# Altium schematic symbol library FTDI FT-X Series.SchLib: 28 symbols (part 2 of 2)
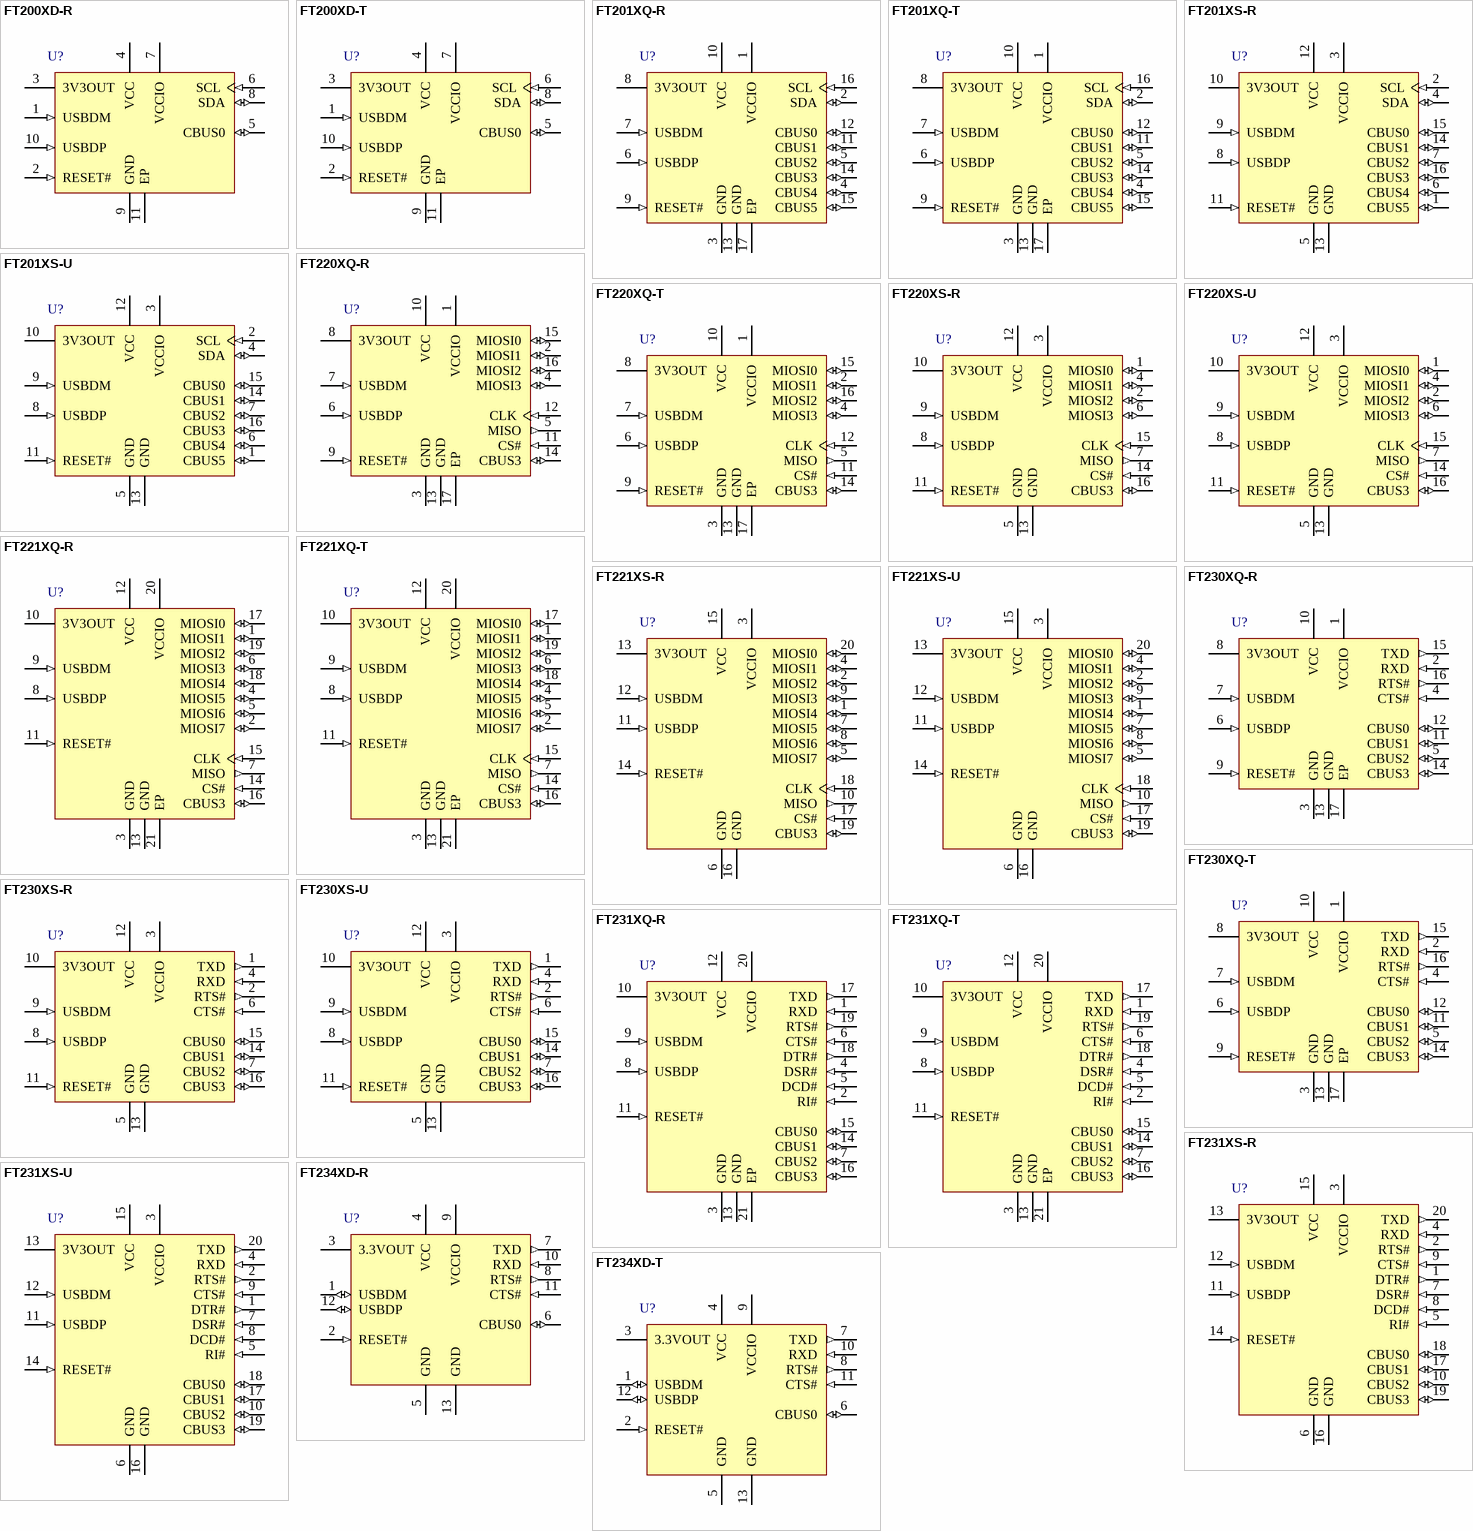
[diagram p2: symbols FT200XD-R to FT234XD-T]

## FT234XD-T
designator U?
FT234XD USB to BASIC UART IC, -40 to +85 degC, 12-Pin DFN, Pb-Free, Tray; Manufacturer: FTDI; PartNumber: FT234XD-T; DatasheetVersion: ver 1.1, Feb-2013; PackageVersion: Feb-13; PackageReference: DFN-12; PackageDescription: 12-Pin Dual Flat No-Lead, 3 x 3 mm Body, 0.45 mm Pitch, Exposed Pad; ComponentLink1Description: Manufacturer URL; ComponentLink1URL: http://www.ftdichip.com/; ComponentLink2Description: Datasheet; ComponentLink2URL: http://www.ftdichip.com/Support/Documents/DataSheets/ICs/DS_FT234XD.pdf
footprint DFN-12_V (SON, 12-Leads, Body 3x3mm, Pitch 0.45mm, Thermal Pad 2.5x1.6mm)
pins: 1 USBDM (io) "USB Data Signal Minus.", 2 RESET# (in) "Reset input (active low).", 3 3.3VOUT (power) "3.3V output at 50mA. May be used to power VCCIO. When VCC is 3.3V; pin 3 is an input pin and should be connected to pin 4.", 4 VCC (power) "5 V (or 3.3V) supply to IC", 5 GND (power) "0V Ground input.", 6 CBUS0 (io) "Configurable CBUS I/O Pin. Function of this pin is configured in the device MTP memory. The default configuration is TXDEN.", 7 TXD (out) "Transmit Asynchronous Data Output.", 8 RTS# (out) "Request to Send Control Output / Handshake Signal.", 9 VCCIO (power) "1.8V - 3.3V supply for the IO cells", 10 RXD (in) "Receiving Asynchronous Data Input.", 11 CTS# (in) "Clear To Send Control Input / Handshake Signal.", 12 USBDP (io) "USB Data Signal Plus.", 13 GND (power) "0V Ground input."

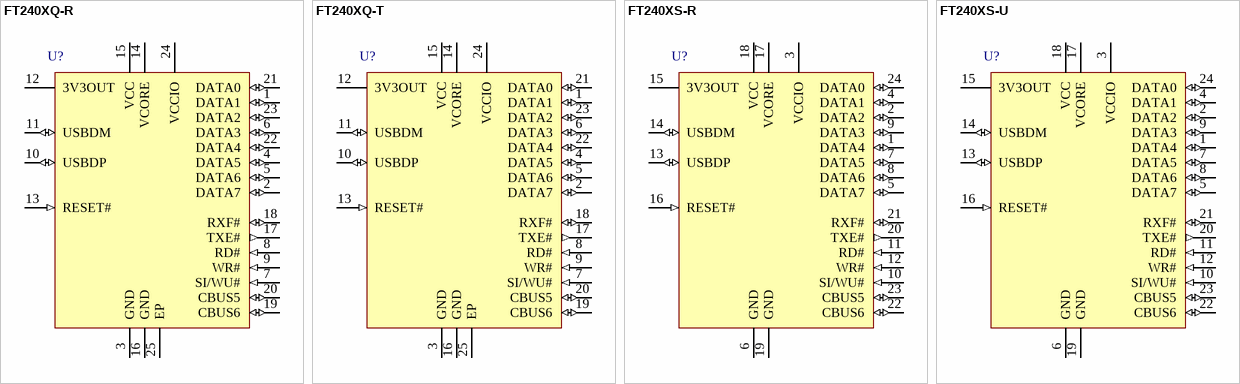
[diagram p1: symbols FT240XQ-R to FT240XS-U]

## FT240XQ-R
designator U?
USB to Parallel FIFO Interface Chip, UHCI/OHCI/EHCI Compatible, USB 2.0 Compatible, -40 to +85 degC, 24-Pin QFN, Pb-Free, Tape and Reel; Manufacturer: FTDI; PartNumber: FT240XQ-R; DatasheetVersion: ver 1.3, Feb-2013; PackageVersion: Feb-13; PackageReference: QFN-24; PackageDescription: 24-Pin Quad Flat No-Lead, 4 x 4 mm Body, 0.5 mm Pitch; Code_JEDEC: MO-220WGGD-6; ComponentLink1Description: Manufacturer URL; ComponentLink1URL: http://www.ftdichip.com/; ComponentLink2Description: Datasheet; ComponentLink2URL: http://www.ftdichip.com/Support/Documents/DataSheets/ICs/DS_FT240X.pdf; ComponentLink3Description: FT240X Product Page; ComponentLink3URL: www.ftdichip.com/Products/ICs/FT240X.html
footprint QFN-24_N (QFN, 24-Leads, Body 4x4mm, Pitch 0.5mm, Thermal Pad 2.7x2.7mm, IPC Medium Density)
footprint QFN-24_L (QFN, 24-Leads, Body 4x4mm, Pitch 0.5mm, Thermal Pad 2.7x2.7mm, IPC High Density)
footprint QFN-24_M (QFN, 24-Leads, Body 4x4mm, Pitch 0.5mm, Thermal Pad 2.7x2.7mm, IPC Low Density)
pins: 1 DATA1 (io) "FIFO Data Bus Bit 1.", 2 DATA7 (io) "FIFO Data Bus Bit 7.", 3 GND (power) "Device ground supply pins.", 4 DATA5 (io) "FIFO Data Bus Bit 5.", 5 DATA6 (io) "FIFO Data Bus Bit 6.", 6 DATA3 (io) "FIFO Data Bus Bit 3.", 7 SI/WU# (in) "Active low input. May be used to flush the IC buffer back to the PC (Send Immediate) or if the PC is in suspend mode it can be used as a Wake Up signal.", 8 RD# (in) "Enables the current FIFO data byte on D0...D7 when low. Fetched the next FIFO data byte (if available) from the receive FIFO buffer when RD# goes from high to low.", 9 WR# (in) "Writes the data byte on the D0...D7 pins into the transmit FIFO buffer when WR goes from high to low.", 10 USBDP (io) "USB Data Signal Plus, incorporating 1.5k ohm pull up resistor to 3.3V.", 11 USBDM (io) "USB Data Signal Minus.", 12 3V3OUT (power) "3V3 output at 50mA. May be used to power VCCIO. When VCC is 3V3; pin 12is an input pinand should beconnected to pin 15.", 13 RESET# (in) "Active low reset pin. This can be used by an external device to reset the FT240X. If not required can be left unconnected,or pulled up to VCC.", 14 VCORE (power) "+1V8 Output. May be left unterminated.", 15 VCC (power) "+5V (or 3V3) supply to the device core.", 16 GND (power) "Device ground supply pins.", 17 TXE# (out) "When high, do not write data into the FIFO. When low, data can be written into the FIFO by strobing WR high, then low. During reset this signal pin is tri-state.", 18 RXF# (io) "When high, do not read data from the FIFO. When low, there is data available in the FIFO which can be read by strobing RD# low, then high again. During reset this signal pin is tri-state.", 19 CBUS6 (io) "Configurable CBUS I/O Pin. Function of this pin is configured in the device MTP memory.", 20 CBUS5 (io) "Configurable CBUS I/O Pin. Function of this pin is configured in the device MTP memory.", 21 DATA0 (io) "FIFO Data Bus Bit 0.", 22 DATA4 (io) "FIFO Data Bus Bit 4.", 23 DATA2 (io) "FIFO Data Bus Bit 2.", 24 VCCIO (power) "1V8 -3V3 supply for the IO cells.", 25 EP (power) "Exposed Pad. Connect to GND."

## FT240XQ-T
designator U?
USB to Parallel FIFO Interface Chip, UHCI/OHCI/EHCI Compatible, USB 2.0 Compatible, -40 to +85 degC, 24-Pin QFN, Pb-Free, Tray; Manufacturer: FTDI; PartNumber: FT240XQ-T; DatasheetVersion: ver 1.3, Feb-2013; PackageVersion: Feb-13; PackageReference: QFN-24; PackageDescription: 24-Pin Quad Flat No-Lead, 4 x 4 mm Body, 0.5 mm Pitch; Code_JEDEC: MO-220WGGD-6; ComponentLink1Description: Manufacturer URL; ComponentLink1URL: http://www.ftdichip.com/; ComponentLink2Description: Datasheet; ComponentLink2URL: http://www.ftdichip.com/Support/Documents/DataSheets/ICs/DS_FT240X.pdf; ComponentLink3Description: FT240X Product Page; ComponentLink3URL: www.ftdichip.com/Products/ICs/FT240X.html
footprint QFN-24_N (QFN, 24-Leads, Body 4x4mm, Pitch 0.5mm, Thermal Pad 2.7x2.7mm, IPC Medium Density)
footprint QFN-24_L (QFN, 24-Leads, Body 4x4mm, Pitch 0.5mm, Thermal Pad 2.7x2.7mm, IPC High Density)
footprint QFN-24_M (QFN, 24-Leads, Body 4x4mm, Pitch 0.5mm, Thermal Pad 2.7x2.7mm, IPC Low Density)
pins: 1 DATA1 (io) "FIFO Data Bus Bit 1.", 2 DATA7 (io) "FIFO Data Bus Bit 7.", 3 GND (power) "Device ground supply pins.", 4 DATA5 (io) "FIFO Data Bus Bit 5.", 5 DATA6 (io) "FIFO Data Bus Bit 6.", 6 DATA3 (io) "FIFO Data Bus Bit 3.", 7 SI/WU# (in) "Active low input. May be used to flush the IC buffer back to the PC (Send Immediate) or if the PC is in suspend mode it can be used as a Wake Up signal.", 8 RD# (in) "Enables the current FIFO data byte on D0...D7 when low. Fetched the next FIFO data byte (if available) from the receive FIFO buffer when RD# goes from high to low.", 9 WR# (in) "Writes the data byte on the D0...D7 pins into the transmit FIFO buffer when WR goes from high to low.", 10 USBDP (io) "USB Data Signal Plus, incorporating 1.5k ohm pull up resistor to 3.3V.", 11 USBDM (io) "USB Data Signal Minus.", 12 3V3OUT (power) "3V3 output at 50mA. May be used to power VCCIO. When VCC is 3V3; pin 12is an input pinand should beconnected to pin 15.", 13 RESET# (in) "Active low reset pin. This can be used by an external device to reset the FT240X. If not required can be left unconnected,or pulled up to VCC.", 14 VCORE (power) "+1V8 Output. May be left unterminated.", 15 VCC (power) "+5V (or 3V3) supply to the device core.", 16 GND (power) "Device ground supply pins.", 17 TXE# (out) "When high, do not write data into the FIFO. When low, data can be written into the FIFO by strobing WR high, then low. During reset this signal pin is tri-state.", 18 RXF# (io) "When high, do not read data from the FIFO. When low, there is data available in the FIFO which can be read by strobing RD# low, then high again. During reset this signal pin is tri-state.", 19 CBUS6 (io) "Configurable CBUS I/O Pin. Function of this pin is configured in the device MTP memory.", 20 CBUS5 (io) "Configurable CBUS I/O Pin. Function of this pin is configured in the device MTP memory.", 21 DATA0 (io) "FIFO Data Bus Bit 0.", 22 DATA4 (io) "FIFO Data Bus Bit 4.", 23 DATA2 (io) "FIFO Data Bus Bit 2.", 24 VCCIO (power) "1V8 -3V3 supply for the IO cells.", 25 EP (power) "Exposed Pad. Connect to GND."

## FT240XS-R
designator U?
USB to Parallel FIFO Interface Chip, UHCI/OHCI/EHCI Compatible, USB 2.0 Compatible, -40 to +85 degC, 24-Pin SSOP, Pb-Free, Tape and Reel; Manufacturer: FTDI; PartNumber: FT240XS-R; DatasheetVersion: ver 1.3, Feb-2013; PackageVersion: Feb-13; PackageReference: SSOP-24; PackageDescription: 24-Pin Shrink Small Outline Package, 0.025" Lead Pitch, 150mil Wide Body; Code_JEDEC: MO-137-AE; ComponentLink1Description: Manufacturer URL; ComponentLink1URL: http://www.ftdichip.com/; ComponentLink2Description: Datasheet; ComponentLink2URL: http://www.ftdichip.com/Support/Documents/DataSheets/ICs/DS_FT240X.pdf; ComponentLink3Description: FT240X Product Page; ComponentLink3URL: www.ftdichip.com/Products/ICs/FT240X.html
footprint SSOP-24_N (SOP, 24-Leads, Body 8.6x3.9mm, Pitch 0.635mm, IPC Medium Density)
footprint SSOP-24_L (SOP, 24-Leads, Body 8.6x3.9mm, Pitch 0.635mm, IPC High Density)
footprint SSOP-24_M (SOP, 24-Leads, Body 8.6x3.9mm, Pitch 0.635mm, IPC Low Density)
pins: 1 DATA4 (io) "FIFO Data Bus Bit 4.", 2 DATA2 (io) "FIFO Data Bus Bit 2.", 3 VCCIO (power) "1V8 -3V3 supply for the IO cells.", 4 DATA1 (io) "FIFO Data Bus Bit 1.", 5 DATA7 (io) "FIFO Data Bus Bit 7.", 6 GND (power) "Device ground supply pins.", 7 DATA5 (io) "FIFO Data Bus Bit 5.", 8 DATA6 (io) "FIFO Data Bus Bit 6.", 9 DATA3 (io) "FIFO Data Bus Bit 3.", 10 SI/WU# (in) "Active low input. May be used to flush the IC buffer back to the PC (Send Immediate) or if the PC is in suspend mode it can be used as a Wake Up signal.", 11 RD# (in) "Enables the current FIFO data byte on D0...D7 when low. Fetched the next FIFO data byte (if available) from the receive FIFO buffer when RD# goes from high to low.", 12 WR# (in) "Writes the data byte on the D0...D7 pins into the transmit FIFO buffer when WR goes from high to low.", 13 USBDP (io) "USB Data Signal Plus, incorporating 1.5k ohm pull up resistor to 3.3V.", 14 USBDM (io) "USB Data Signal Minus.", 15 3V3OUT (power) "3V3 output at 50mA. May be used to power VCCIO.When VCC is 3V3; pin 15is an input pinand should be connected to pin 18.", 16 RESET# (in) "Active low reset pin. This can be used by an external device to reset the FT240X. If not required can be left unconnected, or pulled up to VCC.", 17 VCORE (power) "+1V8 Output. May be left unterminated.", 18 VCC (power) "+5V (or 3V3) supply to the device core.", 19 GND (power) "Device ground supply pins.", 20 TXE# (out) "When high, do not write data into the FIFO. When low, data can be written into the FIFO by strobing WR high, then low. During reset this signal pin is tri-state.", 21 RXF# (io) "When high, do not read data from the FIFO. When low, there is data available in the FIFO which can be read by strobing RD# low, then high again. During reset this signal pin is tri-state.", 22 CBUS6 (io) "Configurable CBUS I/O Pin. Function of this pin is configured in the device MTP memory.", 23 CBUS5 (io) "Configurable CBUS I/O Pin. Function of this pin is configured in the device MTP memory.", 24 DATA0 (io) "FIFO Data Bus Bit 0."

## FT240XS-U
designator U?
USB to Parallel FIFO Interface Chip, UHCI/OHCI/EHCI Compatible, USB 2.0 Compatible, -40 to +85 degC, 24-Pin SSOP, Pb-Free, Tube; Manufacturer: FTDI; PartNumber: FT240XS-U; DatasheetVersion: ver 1.3, Feb-2013; PackageVersion: Feb-13; PackageReference: SSOP-24; PackageDescription: 24-Pin Shrink Small Outline Package, 0.025" Lead Pitch, 150mil Wide Body; Code_JEDEC: MO-137-AE; ComponentLink1Description: Manufacturer URL; ComponentLink1URL: http://www.ftdichip.com/; ComponentLink2Description: Datasheet; ComponentLink2URL: http://www.ftdichip.com/Support/Documents/DataSheets/ICs/DS_FT240X.pdf; ComponentLink3Description: FT240X Product Page; ComponentLink3URL: www.ftdichip.com/Products/ICs/FT240X.html
footprint SSOP-24_N (SOP, 24-Leads, Body 8.6x3.9mm, Pitch 0.635mm, IPC Medium Density)
footprint SSOP-24_L (SOP, 24-Leads, Body 8.6x3.9mm, Pitch 0.635mm, IPC High Density)
footprint SSOP-24_M (SOP, 24-Leads, Body 8.6x3.9mm, Pitch 0.635mm, IPC Low Density)
pins: 1 DATA4 (io) "FIFO Data Bus Bit 4.", 2 DATA2 (io) "FIFO Data Bus Bit 2.", 3 VCCIO (power) "1V8 -3V3 supply for the IO cells.", 4 DATA1 (io) "FIFO Data Bus Bit 1.", 5 DATA7 (io) "FIFO Data Bus Bit 7.", 6 GND (power) "Device ground supply pins.", 7 DATA5 (io) "FIFO Data Bus Bit 5.", 8 DATA6 (io) "FIFO Data Bus Bit 6.", 9 DATA3 (io) "FIFO Data Bus Bit 3.", 10 SI/WU# (in) "Active low input. May be used to flush the IC buffer back to the PC (Send Immediate) or if the PC is in suspend mode it can be used as a Wake Up signal.", 11 RD# (in) "Enables the current FIFO data byte on D0...D7 when low. Fetched the next FIFO data byte (if available) from the receive FIFO buffer when RD# goes from high to low.", 12 WR# (in) "Writes the data byte on the D0...D7 pins into the transmit FIFO buffer when WR goes from high to low.", 13 USBDP (io) "USB Data Signal Plus, incorporating 1.5k ohm pull up resistor to 3.3V.", 14 USBDM (io) "USB Data Signal Minus.", 15 3V3OUT (power) "3V3 output at 50mA. May be used to power VCCIO.When VCC is 3V3; pin 15is an input pinand should be connected to pin 18.", 16 RESET# (in) "Active low reset pin. This can be used by an external device to reset the FT240X. If not required can be left unconnected, or pulled up to VCC.", 17 VCORE (power) "+1V8 Output. May be left unterminated.", 18 VCC (power) "+5V (or 3V3) supply to the device core.", 19 GND (power) "Device ground supply pins.", 20 TXE# (out) "When high, do not write data into the FIFO. When low, data can be written into the FIFO by strobing WR high, then low. During reset this signal pin is tri-state.", 21 RXF# (io) "When high, do not read data from the FIFO. When low, there is data available in the FIFO which can be read by strobing RD# low, then high again. During reset this signal pin is tri-state.", 22 CBUS6 (io) "Configurable CBUS I/O Pin. Function of this pin is configured in the device MTP memory.", 23 CBUS5 (io) "Configurable CBUS I/O Pin. Function of this pin is configured in the device MTP memory.", 24 DATA0 (io) "FIFO Data Bus Bit 0."